# Altium integrated library Linear Technology Power Management Switching Regulator LTC1174-LTC3901.IntLib: 2647 symbols (part 40 of 364)
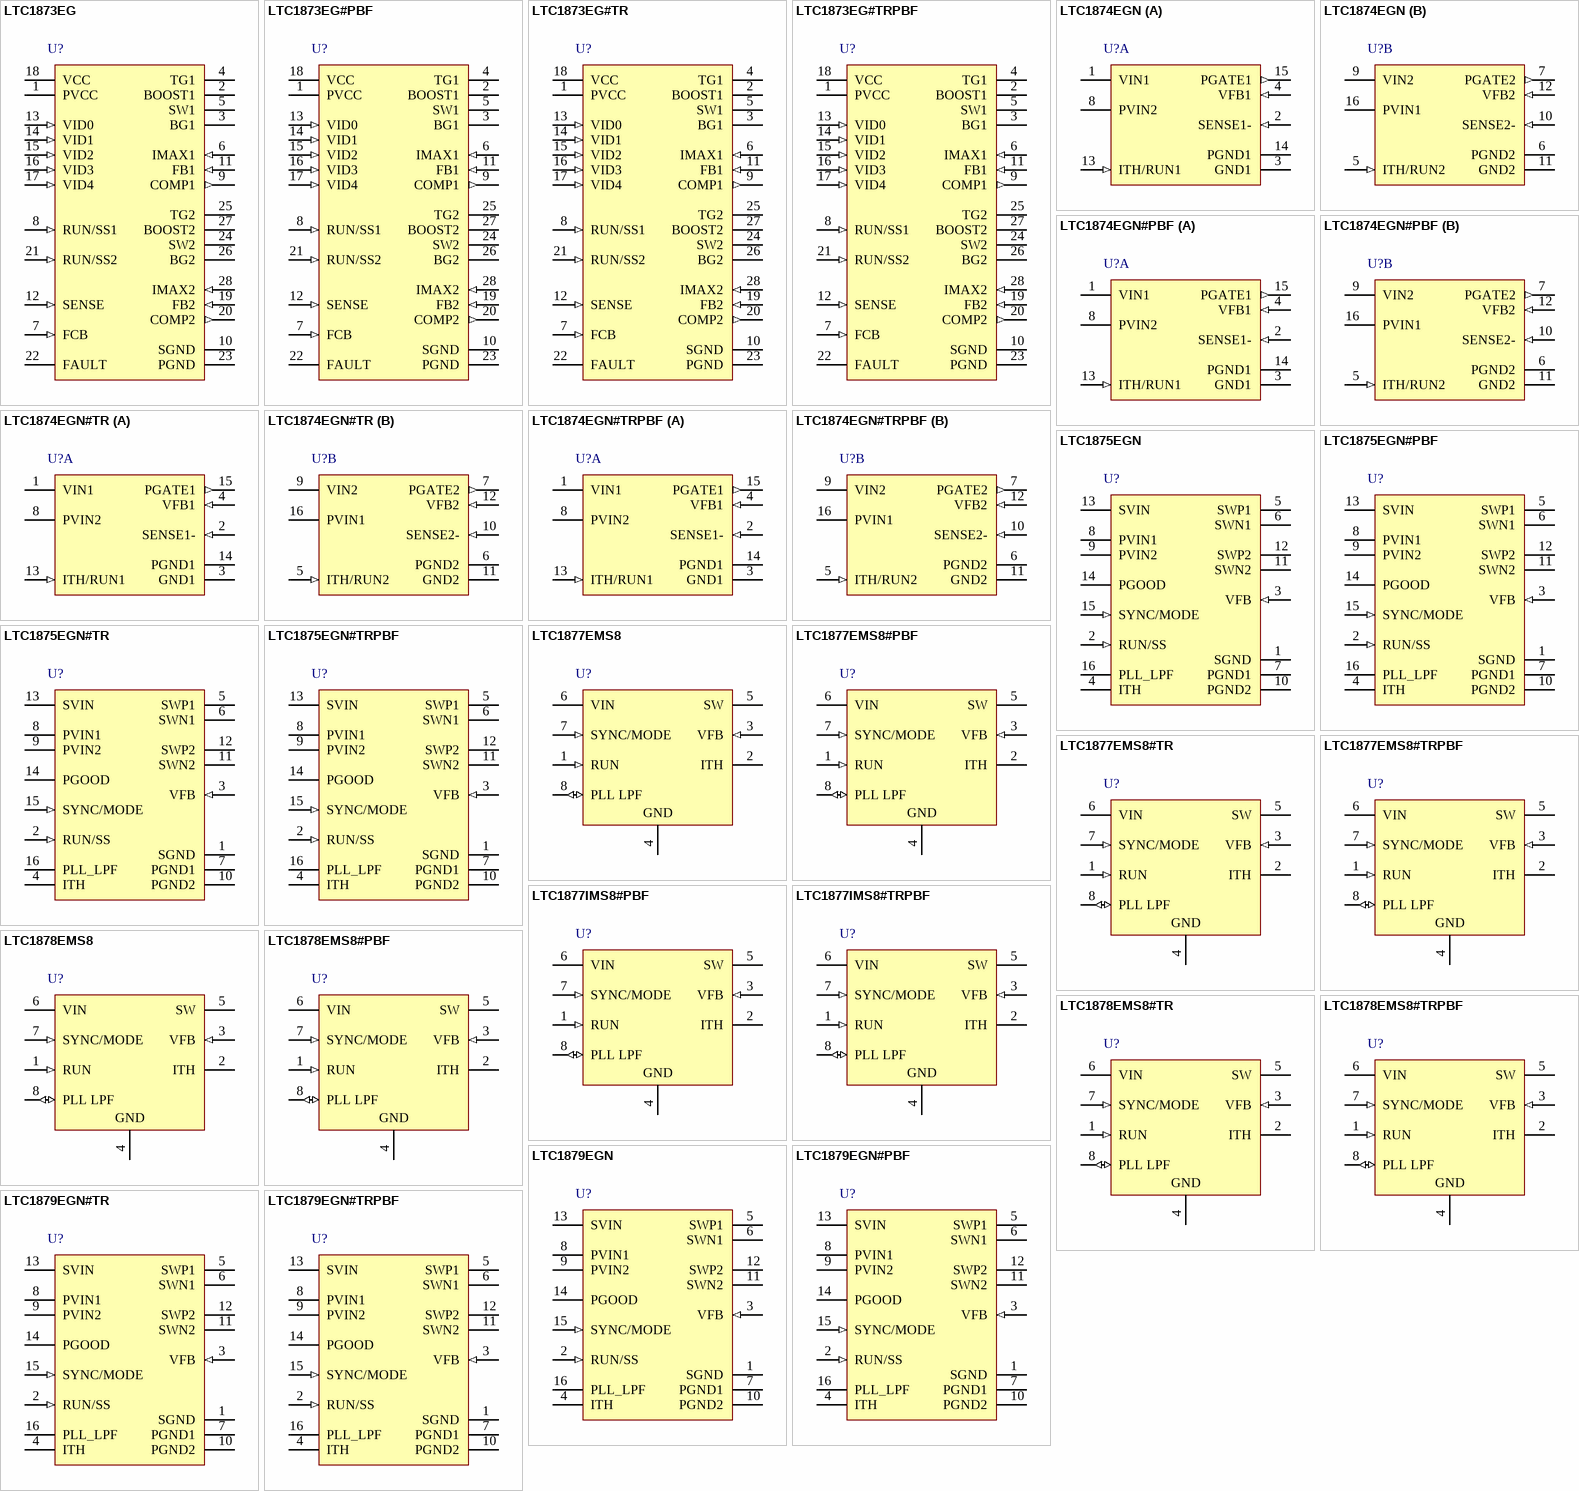
[diagram p136: symbols LTC1873EG to LTC1879EGN#TRPBF]

## LTC1873EG#PBF
designator U?
Dual 550 kHz Synchronous 2-Phase Switching Regulator Controller with 5-Bit VID, 28-pin SOP (G-28), -40 to 85 degC, Pb-Free; Manufacturer: Linear Technology; PartNumber: LTC1873EG#PBF; Number of Outputs: 2; PackageVersion: Jun-10; PackageReference: G-28; PackageDescription: 28-Pin Plastic SSOP, Body 10.2 x 5.3 mm, Pitch 0.65 mm; Supplier 1: Digi-Key; Supplier Part Number 1: LTC1873EG#PBF-ND; Supplier 2: Newark; Supplier Part Number 2: 56M4280; RoHS: TRUE; Mounting Technology: Surface Mount; ComponentLink1Description: Manufacturer URL; ComponentLink1URL: http://www.linear.com/; ComponentLink2Description: Datasheet; ComponentLink2URL: http://cds.linear.com/docs/en/datasheet/1873f.pdf; ComponentLink3Description: Package Specification; ComponentLink3URL: http://cds.linear.com/docs/en/packaging/SSOP_28_05-08-1640.pdf
footprint LT-G-28_N (SOP, 28-Leads, Body 10.2x5.3mm, Pitch 0.65mm, IPC Medium Density)
footprint LT-G-28_L (SOP, 28-Leads, Body 10.2x5.3mm, Pitch 0.65mm, IPC High Density)
footprint LT-G-28_M (SOP, 28-Leads, Body 10.2x5.3mm, Pitch 0.65mm, IPC Low Density)
pins: 1 PVCC (power) "Driver Power Supply Input. PVCC provides power to the two BGn output drivers. PVCC must be connected to a voltage high enough to fully turn on the external MOSFETs QB1 and QB2. PVCC should generally be connected directly to (See Datasheet)", 2 BOOST1 "Controller 1 Top Gate Driver Supply. The BOOST1 pin supplies power to the floating TG1 driver. BOOST1 should be bypassed to SW1 with a 1uF capacitor. An additional Schottky diode from VIN to BOOST1 pin will create a complete (See Datasheet)", 3 BG1 (hiz) "Controller 1 Bottom Gate Drive. The BG1 pin drives the gate of the bottom N-channel synchronous switch MOSFET, QB1. BG1 is designed to drive up to 10,000pF of gate capacitance directly. If RUN/SS1 goes low, BG1 will go low, (See Datasheet)", 4 TG1 (hiz) "Controller 1 Top Gate Drive. The TG1 pin drives the gate of the top N-channel MOSFET, QT1. The TG1 driver draws power from the BOOST1 pin and returns to the SW1 pin, providing true floating drive to QT1. TG1 is designed to (See Datasheet)", 5 SW1 "Controller 1 Switching Node. SW1 should be connected to the switching node of converter 1. The TG1 driver ground returns to SW1, providing floating gate drive to the top N-channel MOSFET switch, QT1. The voltage at SW1 is (See Datasheet)", 6 IMAX1 (in) "Controller 1 Current Limit Set. The IMAX1 pin sets the current limit comparator threshold for controller 1. If the voltage drop across the bottom MOSFET, QB1, exceeds the magnitude of the voltage at IMAX1, controller 1 will (See Datasheet)", 7 FCB (in) "Force Continuous Bar. The FCB pin forces both converters to maintain continuous synchronous operation regardless of load when the voltage at FCB drops below 0.8V. FCB is normally tied to VCC. To force continuous operation, (See Datasheet)", 8 RUN/SS1 (in) "Controller 1 Run/Soft-Start. Pulling RUN/SS1 to SGND will disable controller 1 and turn off both of its external MOSFET switches. Pulling both RUN/SS pins down will shut down the entire LTC1873, dropping the quiescent supply (See Datasheet)", 9 COMP1 (out) "Controller 1 Loop Compensation. The COMP1 pin is connected directly to the output of the first controller’s error amplifier and the input to the PWM comparator. An RC network is used at the COMP1 pin to compensate th(See Datasheet)", 10 SGND (power) "Signal Ground. All internal low power circuitry returns to the SGND pin. Connect to a low impedance ground, separated from the PGND node. All feedback, compensation and soft-start connections should return to SGND. SGND and (See Datasheet)", 11 FB1 (in) "Controller 1 Feedback Input. The loop compensation network for controller 1 should be connected to FB1. FB1 is connected internally to the VID resistor network to set the output voltage at side 1.", 12 SENSE (in) "Output Sense. Connect to VOUT1.", 13 VID0 (in) "VID Programming Inputs. These are logic inputs that set the output voltage at side 1 to a preprogrammed value (see Table 1). VID4 is the MSB, VID0 is the LSB. The codes selected by the VIDn inputs correspond to the Intel (See Datasheet)", 14 VID1 (in) "VID Programming Inputs. These are logic inputs that set the output voltage at side 1 to a preprogrammed value (see Table 1). VID4 is the MSB, VID0 is the LSB. The codes selected by the VIDn inputs correspond to the Intel (See Datasheet)", 15 VID2 (in) "VID Programming Inputs. These are logic inputs that set the output voltage at side 1 to a preprogrammed value (see Table 1). VID4 is the MSB, VID0 is the LSB. The codes selected by the VIDn inputs correspond to the Intel (See Datasheet)", 16 VID3 (in) "VID Programming Inputs. These are logic inputs that set the output voltage at side 1 to a preprogrammed value (see Table 1). VID4 is the MSB, VID0 is the LSB. The codes selected by the VIDn inputs correspond to the Intel (See Datasheet)", 17 VID4 (in) "VID Programming Inputs. These are logic inputs that set the output voltage at side 1 to a preprogrammed value (see Table 1). VID4 is the MSB, VID0 is the LSB. The codes selected by the VIDn inputs correspond to the Intel (See Datasheet)", 18 VCC (power) "Power Supply Input. All internal circuits except the output drivers are powered from this pin. VCC should be connected to a low noise power supply voltage between 3V and 7V and should be bypassed to SGND with at least a 1uF (See Datasheet)", 19 FB2 (in) "Controller 2 Feedback Input. FB2 should be connected through a resistor divider network to VOUT2 to set the ouput voltage. The loop compensation network for controller 2 also connects to FB2.", 20 COMP2 (out) "Controller 2 Loop Compensation. See COMP1.", 21 RUN/SS2 (in) "Controller 2 Run/Soft-Start. See RUN/ SS1.", 22 FAULT (oc) "Output Overvoltage Fault (Latched). The FAULT pin is an open-drain output with an internal 10uA pull-up. If either regulated output voltage rises more than 15% above its programmed value for more than 25us, the FAULT output (See Datasheet)", 23 PGND (power) "Power Ground. The BGn drivers return to this pin. Connect PGND to a high current ground node in close proximity to the sources of external MOSFETs, QB1 and QB2, and the VIN and VOUT bypass capacitors.", 24 SW2 "Controller 2 Switching Node. See SW1.", 25 TG2 (hiz) "Controller 2 Top Gate Drive. See TG1.", 26 BG2 (hiz) "Controller 2 Bottom Gate Drive. See BG1.", 27 BOOST2 "Controller 2 Top Gate Driver Supply. See BOOST1.", 28 IMAX2 (in) "Controller 2 Current Limit Set. See IMAX1."

## LTC1873EG#TR
designator U?
Dual 550 kHz Synchronous 2-Phase Switching Regulator Controller with 5-Bit VID, 28-pin SOP (G-28), -40 to 85 degC, Tape and Reel; Manufacturer: Linear Technology; PartNumber: LTC1873EG#TR; Number of Outputs: 2; PackageVersion: Jun-10; PackageReference: G-28; PackageDescription: 28-Pin Plastic SSOP, Body 10.2 x 5.3 mm, Pitch 0.65 mm; Supplier 1: Digi-Key; Supplier Part Number 1: LTC1873EG#TR-ND; Packing: Tape and Reel; RoHS: FALSE; Mounting Technology: Surface Mount; ComponentLink1Description: Manufacturer URL; ComponentLink1URL: http://www.linear.com/; ComponentLink2Description: Datasheet; ComponentLink2URL: http://cds.linear.com/docs/en/datasheet/1873f.pdf; ComponentLink3Description: Package Specification; ComponentLink3URL: http://cds.linear.com/docs/en/packaging/SSOP_28_05-08-1640.pdf
footprint LT-G-28_N (SOP, 28-Leads, Body 10.2x5.3mm, Pitch 0.65mm, IPC Medium Density)
footprint LT-G-28_L (SOP, 28-Leads, Body 10.2x5.3mm, Pitch 0.65mm, IPC High Density)
footprint LT-G-28_M (SOP, 28-Leads, Body 10.2x5.3mm, Pitch 0.65mm, IPC Low Density)
pins: 1 PVCC (power) "Driver Power Supply Input. PVCC provides power to the two BGn output drivers. PVCC must be connected to a voltage high enough to fully turn on the external MOSFETs QB1 and QB2. PVCC should generally be connected directly to (See Datasheet)", 2 BOOST1 "Controller 1 Top Gate Driver Supply. The BOOST1 pin supplies power to the floating TG1 driver. BOOST1 should be bypassed to SW1 with a 1uF capacitor. An additional Schottky diode from VIN to BOOST1 pin will create a complete (See Datasheet)", 3 BG1 (hiz) "Controller 1 Bottom Gate Drive. The BG1 pin drives the gate of the bottom N-channel synchronous switch MOSFET, QB1. BG1 is designed to drive up to 10,000pF of gate capacitance directly. If RUN/SS1 goes low, BG1 will go low, (See Datasheet)", 4 TG1 (hiz) "Controller 1 Top Gate Drive. The TG1 pin drives the gate of the top N-channel MOSFET, QT1. The TG1 driver draws power from the BOOST1 pin and returns to the SW1 pin, providing true floating drive to QT1. TG1 is designed to (See Datasheet)", 5 SW1 "Controller 1 Switching Node. SW1 should be connected to the switching node of converter 1. The TG1 driver ground returns to SW1, providing floating gate drive to the top N-channel MOSFET switch, QT1. The voltage at SW1 is (See Datasheet)", 6 IMAX1 (in) "Controller 1 Current Limit Set. The IMAX1 pin sets the current limit comparator threshold for controller 1. If the voltage drop across the bottom MOSFET, QB1, exceeds the magnitude of the voltage at IMAX1, controller 1 will (See Datasheet)", 7 FCB (in) "Force Continuous Bar. The FCB pin forces both converters to maintain continuous synchronous operation regardless of load when the voltage at FCB drops below 0.8V. FCB is normally tied to VCC. To force continuous operation, (See Datasheet)", 8 RUN/SS1 (in) "Controller 1 Run/Soft-Start. Pulling RUN/SS1 to SGND will disable controller 1 and turn off both of its external MOSFET switches. Pulling both RUN/SS pins down will shut down the entire LTC1873, dropping the quiescent supply (See Datasheet)", 9 COMP1 (out) "Controller 1 Loop Compensation. The COMP1 pin is connected directly to the output of the first controller’s error amplifier and the input to the PWM comparator. An RC network is used at the COMP1 pin to compensate th(See Datasheet)", 10 SGND (power) "Signal Ground. All internal low power circuitry returns to the SGND pin. Connect to a low impedance ground, separated from the PGND node. All feedback, compensation and soft-start connections should return to SGND. SGND and (See Datasheet)", 11 FB1 (in) "Controller 1 Feedback Input. The loop compensation network for controller 1 should be connected to FB1. FB1 is connected internally to the VID resistor network to set the output voltage at side 1.", 12 SENSE (in) "Output Sense. Connect to VOUT1.", 13 VID0 (in) "VID Programming Inputs. These are logic inputs that set the output voltage at side 1 to a preprogrammed value (see Table 1). VID4 is the MSB, VID0 is the LSB. The codes selected by the VIDn inputs correspond to the Intel (See Datasheet)", 14 VID1 (in) "VID Programming Inputs. These are logic inputs that set the output voltage at side 1 to a preprogrammed value (see Table 1). VID4 is the MSB, VID0 is the LSB. The codes selected by the VIDn inputs correspond to the Intel (See Datasheet)", 15 VID2 (in) "VID Programming Inputs. These are logic inputs that set the output voltage at side 1 to a preprogrammed value (see Table 1). VID4 is the MSB, VID0 is the LSB. The codes selected by the VIDn inputs correspond to the Intel (See Datasheet)", 16 VID3 (in) "VID Programming Inputs. These are logic inputs that set the output voltage at side 1 to a preprogrammed value (see Table 1). VID4 is the MSB, VID0 is the LSB. The codes selected by the VIDn inputs correspond to the Intel (See Datasheet)", 17 VID4 (in) "VID Programming Inputs. These are logic inputs that set the output voltage at side 1 to a preprogrammed value (see Table 1). VID4 is the MSB, VID0 is the LSB. The codes selected by the VIDn inputs correspond to the Intel (See Datasheet)", 18 VCC (power) "Power Supply Input. All internal circuits except the output drivers are powered from this pin. VCC should be connected to a low noise power supply voltage between 3V and 7V and should be bypassed to SGND with at least a 1uF (See Datasheet)", 19 FB2 (in) "Controller 2 Feedback Input. FB2 should be connected through a resistor divider network to VOUT2 to set the ouput voltage. The loop compensation network for controller 2 also connects to FB2.", 20 COMP2 (out) "Controller 2 Loop Compensation. See COMP1.", 21 RUN/SS2 (in) "Controller 2 Run/Soft-Start. See RUN/ SS1.", 22 FAULT (oc) "Output Overvoltage Fault (Latched). The FAULT pin is an open-drain output with an internal 10uA pull-up. If either regulated output voltage rises more than 15% above its programmed value for more than 25us, the FAULT output (See Datasheet)", 23 PGND (power) "Power Ground. The BGn drivers return to this pin. Connect PGND to a high current ground node in close proximity to the sources of external MOSFETs, QB1 and QB2, and the VIN and VOUT bypass capacitors.", 24 SW2 "Controller 2 Switching Node. See SW1.", 25 TG2 (hiz) "Controller 2 Top Gate Drive. See TG1.", 26 BG2 (hiz) "Controller 2 Bottom Gate Drive. See BG1.", 27 BOOST2 "Controller 2 Top Gate Driver Supply. See BOOST1.", 28 IMAX2 (in) "Controller 2 Current Limit Set. See IMAX1."

## LTC1873EG#TRPBF
designator U?
Dual 550 kHz Synchronous 2-Phase Switching Regulator Controller with 5-Bit VID, 28-pin SOP (G-28), -40 to 85 degC, Pb-Free, Tape and Reel; Manufacturer: Linear Technology; PartNumber: LTC1873EG#TRPBF; Number of Outputs: 2; PackageVersion: Jun-10; PackageReference: G-28; PackageDescription: 28-Pin Plastic SSOP, Body 10.2 x 5.3 mm, Pitch 0.65 mm; Supplier 1: Digi-Key; Supplier Part Number 1: LTC1873EG#TRPBF-ND; Packing: Tape and Reel; RoHS: TRUE; Mounting Technology: Surface Mount; ComponentLink1Description: Manufacturer URL; ComponentLink1URL: http://www.linear.com/; ComponentLink2Description: Datasheet; ComponentLink2URL: http://cds.linear.com/docs/en/datasheet/1873f.pdf; ComponentLink3Description: Package Specification; ComponentLink3URL: http://cds.linear.com/docs/en/packaging/SSOP_28_05-08-1640.pdf
footprint LT-G-28_N (SOP, 28-Leads, Body 10.2x5.3mm, Pitch 0.65mm, IPC Medium Density)
footprint LT-G-28_L (SOP, 28-Leads, Body 10.2x5.3mm, Pitch 0.65mm, IPC High Density)
footprint LT-G-28_M (SOP, 28-Leads, Body 10.2x5.3mm, Pitch 0.65mm, IPC Low Density)
pins: 1 PVCC (power) "Driver Power Supply Input. PVCC provides power to the two BGn output drivers. PVCC must be connected to a voltage high enough to fully turn on the external MOSFETs QB1 and QB2. PVCC should generally be connected directly to (See Datasheet)", 2 BOOST1 "Controller 1 Top Gate Driver Supply. The BOOST1 pin supplies power to the floating TG1 driver. BOOST1 should be bypassed to SW1 with a 1uF capacitor. An additional Schottky diode from VIN to BOOST1 pin will create a complete (See Datasheet)", 3 BG1 (hiz) "Controller 1 Bottom Gate Drive. The BG1 pin drives the gate of the bottom N-channel synchronous switch MOSFET, QB1. BG1 is designed to drive up to 10,000pF of gate capacitance directly. If RUN/SS1 goes low, BG1 will go low, (See Datasheet)", 4 TG1 (hiz) "Controller 1 Top Gate Drive. The TG1 pin drives the gate of the top N-channel MOSFET, QT1. The TG1 driver draws power from the BOOST1 pin and returns to the SW1 pin, providing true floating drive to QT1. TG1 is designed to (See Datasheet)", 5 SW1 "Controller 1 Switching Node. SW1 should be connected to the switching node of converter 1. The TG1 driver ground returns to SW1, providing floating gate drive to the top N-channel MOSFET switch, QT1. The voltage at SW1 is (See Datasheet)", 6 IMAX1 (in) "Controller 1 Current Limit Set. The IMAX1 pin sets the current limit comparator threshold for controller 1. If the voltage drop across the bottom MOSFET, QB1, exceeds the magnitude of the voltage at IMAX1, controller 1 will (See Datasheet)", 7 FCB (in) "Force Continuous Bar. The FCB pin forces both converters to maintain continuous synchronous operation regardless of load when the voltage at FCB drops below 0.8V. FCB is normally tied to VCC. To force continuous operation, (See Datasheet)", 8 RUN/SS1 (in) "Controller 1 Run/Soft-Start. Pulling RUN/SS1 to SGND will disable controller 1 and turn off both of its external MOSFET switches. Pulling both RUN/SS pins down will shut down the entire LTC1873, dropping the quiescent supply (See Datasheet)", 9 COMP1 (out) "Controller 1 Loop Compensation. The COMP1 pin is connected directly to the output of the first controller’s error amplifier and the input to the PWM comparator. An RC network is used at the COMP1 pin to compensate th(See Datasheet)", 10 SGND (power) "Signal Ground. All internal low power circuitry returns to the SGND pin. Connect to a low impedance ground, separated from the PGND node. All feedback, compensation and soft-start connections should return to SGND. SGND and (See Datasheet)", 11 FB1 (in) "Controller 1 Feedback Input. The loop compensation network for controller 1 should be connected to FB1. FB1 is connected internally to the VID resistor network to set the output voltage at side 1.", 12 SENSE (in) "Output Sense. Connect to VOUT1.", 13 VID0 (in) "VID Programming Inputs. These are logic inputs that set the output voltage at side 1 to a preprogrammed value (see Table 1). VID4 is the MSB, VID0 is the LSB. The codes selected by the VIDn inputs correspond to the Intel (See Datasheet)", 14 VID1 (in) "VID Programming Inputs. These are logic inputs that set the output voltage at side 1 to a preprogrammed value (see Table 1). VID4 is the MSB, VID0 is the LSB. The codes selected by the VIDn inputs correspond to the Intel (See Datasheet)", 15 VID2 (in) "VID Programming Inputs. These are logic inputs that set the output voltage at side 1 to a preprogrammed value (see Table 1). VID4 is the MSB, VID0 is the LSB. The codes selected by the VIDn inputs correspond to the Intel (See Datasheet)", 16 VID3 (in) "VID Programming Inputs. These are logic inputs that set the output voltage at side 1 to a preprogrammed value (see Table 1). VID4 is the MSB, VID0 is the LSB. The codes selected by the VIDn inputs correspond to the Intel (See Datasheet)", 17 VID4 (in) "VID Programming Inputs. These are logic inputs that set the output voltage at side 1 to a preprogrammed value (see Table 1). VID4 is the MSB, VID0 is the LSB. The codes selected by the VIDn inputs correspond to the Intel (See Datasheet)", 18 VCC (power) "Power Supply Input. All internal circuits except the output drivers are powered from this pin. VCC should be connected to a low noise power supply voltage between 3V and 7V and should be bypassed to SGND with at least a 1uF (See Datasheet)", 19 FB2 (in) "Controller 2 Feedback Input. FB2 should be connected through a resistor divider network to VOUT2 to set the ouput voltage. The loop compensation network for controller 2 also connects to FB2.", 20 COMP2 (out) "Controller 2 Loop Compensation. See COMP1.", 21 RUN/SS2 (in) "Controller 2 Run/Soft-Start. See RUN/ SS1.", 22 FAULT (oc) "Output Overvoltage Fault (Latched). The FAULT pin is an open-drain output with an internal 10uA pull-up. If either regulated output voltage rises more than 15% above its programmed value for more than 25us, the FAULT output (See Datasheet)", 23 PGND (power) "Power Ground. The BGn drivers return to this pin. Connect PGND to a high current ground node in close proximity to the sources of external MOSFETs, QB1 and QB2, and the VIN and VOUT bypass capacitors.", 24 SW2 "Controller 2 Switching Node. See SW1.", 25 TG2 (hiz) "Controller 2 Top Gate Drive. See TG1.", 26 BG2 (hiz) "Controller 2 Bottom Gate Drive. See BG1.", 27 BOOST2 "Controller 2 Top Gate Driver Supply. See BOOST1.", 28 IMAX2 (in) "Controller 2 Current Limit Set. See IMAX1."

## LTC1874EGN
designator U?
Dual Constant Frequency Current Mode Step-Down DC/DC Controller, 16-pin SOP (GN-16), -40 to 85 degC; Manufacturer: Linear Technology; PartNumber: LTC1874EGN; Number of Outputs: 2; PackageVersion: Rev. B, 03/2012; PackageReference: GN-16; PackageDescription: 16-Pin Plastic SSOP, Body 4.9 x 3.9 mm, Pitch 0.635 mm; Supplier 1: Digi-Key; Supplier Part Number 1: LTC1874EGN-ND; RoHS: FALSE; Mounting Technology: Surface Mount; ComponentLink1Description: Manufacturer URL; ComponentLink1URL: http://www.linear.com/; ComponentLink2Description: Datasheet; ComponentLink2URL: http://cds.linear.com/docs/en/datasheet/1874f.pdf; ComponentLink3Description: Package Specification; ComponentLink3URL: http://cds.linear.com/docs/en/packaging/05081641_B_GN16.pdf
footprint LT-GN-16_N (SOP, 16-Leads, Body 5x4mm, Pitch 0.635mm, IPC Medium Density)
footprint LT-GN-16_L (SOP, 16-Leads, Body 5x4mm, Pitch 0.635mm, IPC High Density)
footprint LT-GN-16_M (SOP, 16-Leads, Body 5x4mm, Pitch 0.635mm, IPC Low Density)
part A pins: 1 VIN1 (power) "Main Supply Pin for Controller #1. This pin delivers the Input DC Supply Current (listed in the Electrical Characteristics table) plus a small amount of logic switching current. Must be connected to PVIN1 (Pin 16) and (See Datasheet)", 2 SENSE1- (in) "The Negative Input to the Current Comparator of Controller #1.", 3 GND1 (power) "Signal Ground for Controller #1. Must be connected to PGND1 (Pin 14).", 4 VFB1 (in) "Receives the feedback voltage from an external resistive divider across the output of Controller #1.", 8 PVIN2 (power) "Power Supply Pin for Controller #2. This pin delivers the dynamic switching current that drives the gate of the external P-channel MOSFET of Controller #2. Must be connected to VIN2 (Pin 9) and closely decoupled to PGND2 (See Datasheet)", 13 ITH/RUN1 (in) "This pin performs two functions. It serves as the error amplifier compensation point as well as the run control input of Controller #1. The current comparator threshold increases with this control voltage. Nominal voltage (See Datasheet)", 14 PGND1 (power) "Power Ground for Controller #1. Must be connected to GND1 (Pin 3).", 15 PGATE1 (out) "Gate Drive for the External P-Channel MOSFET of Controller #1. This pin swings from 0V to the voltage of PVIN1."
part B pins: 5 ITH/RUN2 (in) "This pin performs two functions. It serves as the error amplifier compensation point as well as the run control input of Controller #2. The current comparator threshold increases with this control voltage. Nominal voltage (See Datasheet)", 6 PGND2 (power) "Power Ground for Controller #2. Must be connected to GND2 (Pin 11).", 7 PGATE2 (out) "Gate Drive for the External P-Channel MOSFET of Controller #2. This pin swings from 0V to the voltage of PVIN2", 9 VIN2 (power) "Main Supply Pin for Controller #2. This pin delivers the Input DC Supply Current (listed in the Electrical Characteristics table) plus a small amount of logic switching current. Must be connected to PVIN2 (Pin 8) and closely (See Datasheet)", 10 SENSE2- (in) "The Negative Input to the Current Comparator of Controller #2.", 11 GND2 (power) "Signal Ground for Controller #2. Must be connected to PGND2 (Pin 6).", 12 VFB2 (in) "Receives the feedback voltage from an external resistive divider across the output of Controller #2.", 16 PVIN1 (power) "Power Supply Pin for Controller #1. This pin delivers the dynamic switching current that drives the gate of the external P-channel MOSFET of Controller #1. Must be connected to VIN1 (Pin 1) and closely decoupled to PGND1 (See Datasheet)"

## LTC1874EGN#PBF
designator U?
Dual Constant Frequency Current Mode Step-Down DC/DC Controller, 16-pin SOP (GN-16), -40 to 85 degC, Pb-Free; Manufacturer: Linear Technology; PartNumber: LTC1874EGN#PBF; Number of Outputs: 2; PackageVersion: Rev. B, 03/2012; PackageReference: GN-16; PackageDescription: 16-Pin Plastic SSOP, Body 4.9 x 3.9 mm, Pitch 0.635 mm; Supplier 1: Digi-Key; Supplier Part Number 1: LTC1874EGN#PBF-ND; Supplier 2: Newark; Supplier Part Number 2: 56M4284; RoHS: TRUE; Mounting Technology: Surface Mount; ComponentLink1Description: Manufacturer URL; ComponentLink1URL: http://www.linear.com/; ComponentLink2Description: Datasheet; ComponentLink2URL: http://cds.linear.com/docs/en/datasheet/1874f.pdf; ComponentLink3Description: Package Specification; ComponentLink3URL: http://cds.linear.com/docs/en/packaging/05081641_B_GN16.pdf
footprint LT-GN-16_N (SOP, 16-Leads, Body 5x4mm, Pitch 0.635mm, IPC Medium Density)
footprint LT-GN-16_L (SOP, 16-Leads, Body 5x4mm, Pitch 0.635mm, IPC High Density)
footprint LT-GN-16_M (SOP, 16-Leads, Body 5x4mm, Pitch 0.635mm, IPC Low Density)
part A pins: 1 VIN1 (power) "Main Supply Pin for Controller #1. This pin delivers the Input DC Supply Current (listed in the Electrical Characteristics table) plus a small amount of logic switching current. Must be connected to PVIN1 (Pin 16) and (See Datasheet)", 2 SENSE1- (in) "The Negative Input to the Current Comparator of Controller #1.", 3 GND1 (power) "Signal Ground for Controller #1. Must be connected to PGND1 (Pin 14).", 4 VFB1 (in) "Receives the feedback voltage from an external resistive divider across the output of Controller #1.", 8 PVIN2 (power) "Power Supply Pin for Controller #2. This pin delivers the dynamic switching current that drives the gate of the external P-channel MOSFET of Controller #2. Must be connected to VIN2 (Pin 9) and closely decoupled to PGND2 (See Datasheet)", 13 ITH/RUN1 (in) "This pin performs two functions. It serves as the error amplifier compensation point as well as the run control input of Controller #1. The current comparator threshold increases with this control voltage. Nominal voltage (See Datasheet)", 14 PGND1 (power) "Power Ground for Controller #1. Must be connected to GND1 (Pin 3).", 15 PGATE1 (out) "Gate Drive for the External P-Channel MOSFET of Controller #1. This pin swings from 0V to the voltage of PVIN1."
part B pins: 5 ITH/RUN2 (in) "This pin performs two functions. It serves as the error amplifier compensation point as well as the run control input of Controller #2. The current comparator threshold increases with this control voltage. Nominal voltage (See Datasheet)", 6 PGND2 (power) "Power Ground for Controller #2. Must be connected to GND2 (Pin 11).", 7 PGATE2 (out) "Gate Drive for the External P-Channel MOSFET of Controller #2. This pin swings from 0V to the voltage of PVIN2", 9 VIN2 (power) "Main Supply Pin for Controller #2. This pin delivers the Input DC Supply Current (listed in the Electrical Characteristics table) plus a small amount of logic switching current. Must be connected to PVIN2 (Pin 8) and closely (See Datasheet)", 10 SENSE2- (in) "The Negative Input to the Current Comparator of Controller #2.", 11 GND2 (power) "Signal Ground for Controller #2. Must be connected to PGND2 (Pin 6).", 12 VFB2 (in) "Receives the feedback voltage from an external resistive divider across the output of Controller #2.", 16 PVIN1 (power) "Power Supply Pin for Controller #1. This pin delivers the dynamic switching current that drives the gate of the external P-channel MOSFET of Controller #1. Must be connected to VIN1 (Pin 1) and closely decoupled to PGND1 (See Datasheet)"

## LTC1874EGN#TR
designator U?
Dual Constant Frequency Current Mode Step-Down DC/DC Controller, 16-pin SOP (GN-16), -40 to 85 degC, Tape and Reel; Manufacturer: Linear Technology; PartNumber: LTC1874EGN#TR; Number of Outputs: 2; PackageVersion: Rev. B, 03/2012; PackageReference: GN-16; PackageDescription: 16-Pin Plastic SSOP, Body 4.9 x 3.9 mm, Pitch 0.635 mm; Supplier 1: Digi-Key; Supplier Part Number 1: LTC1874EGN#TR-ND; Packing: Tape and Reel; RoHS: FALSE; Mounting Technology: Surface Mount; ComponentLink1Description: Manufacturer URL; ComponentLink1URL: http://www.linear.com/; ComponentLink2Description: Datasheet; ComponentLink2URL: http://cds.linear.com/docs/en/datasheet/1874f.pdf; ComponentLink3Description: Package Specification; ComponentLink3URL: http://cds.linear.com/docs/en/packaging/05081641_B_GN16.pdf
footprint LT-GN-16_N (SOP, 16-Leads, Body 5x4mm, Pitch 0.635mm, IPC Medium Density)
footprint LT-GN-16_L (SOP, 16-Leads, Body 5x4mm, Pitch 0.635mm, IPC High Density)
footprint LT-GN-16_M (SOP, 16-Leads, Body 5x4mm, Pitch 0.635mm, IPC Low Density)
part A pins: 1 VIN1 (power) "Main Supply Pin for Controller #1. This pin delivers the Input DC Supply Current (listed in the Electrical Characteristics table) plus a small amount of logic switching current. Must be connected to PVIN1 (Pin 16) and (See Datasheet)", 2 SENSE1- (in) "The Negative Input to the Current Comparator of Controller #1.", 3 GND1 (power) "Signal Ground for Controller #1. Must be connected to PGND1 (Pin 14).", 4 VFB1 (in) "Receives the feedback voltage from an external resistive divider across the output of Controller #1.", 8 PVIN2 (power) "Power Supply Pin for Controller #2. This pin delivers the dynamic switching current that drives the gate of the external P-channel MOSFET of Controller #2. Must be connected to VIN2 (Pin 9) and closely decoupled to PGND2 (See Datasheet)", 13 ITH/RUN1 (in) "This pin performs two functions. It serves as the error amplifier compensation point as well as the run control input of Controller #1. The current comparator threshold increases with this control voltage. Nominal voltage (See Datasheet)", 14 PGND1 (power) "Power Ground for Controller #1. Must be connected to GND1 (Pin 3).", 15 PGATE1 (out) "Gate Drive for the External P-Channel MOSFET of Controller #1. This pin swings from 0V to the voltage of PVIN1."
part B pins: 5 ITH/RUN2 (in) "This pin performs two functions. It serves as the error amplifier compensation point as well as the run control input of Controller #2. The current comparator threshold increases with this control voltage. Nominal voltage (See Datasheet)", 6 PGND2 (power) "Power Ground for Controller #2. Must be connected to GND2 (Pin 11).", 7 PGATE2 (out) "Gate Drive for the External P-Channel MOSFET of Controller #2. This pin swings from 0V to the voltage of PVIN2", 9 VIN2 (power) "Main Supply Pin for Controller #2. This pin delivers the Input DC Supply Current (listed in the Electrical Characteristics table) plus a small amount of logic switching current. Must be connected to PVIN2 (Pin 8) and closely (See Datasheet)", 10 SENSE2- (in) "The Negative Input to the Current Comparator of Controller #2.", 11 GND2 (power) "Signal Ground for Controller #2. Must be connected to PGND2 (Pin 6).", 12 VFB2 (in) "Receives the feedback voltage from an external resistive divider across the output of Controller #2.", 16 PVIN1 (power) "Power Supply Pin for Controller #1. This pin delivers the dynamic switching current that drives the gate of the external P-channel MOSFET of Controller #1. Must be connected to VIN1 (Pin 1) and closely decoupled to PGND1 (See Datasheet)"

## LTC1874EGN#TRPBF
designator U?
Dual Constant Frequency Current Mode Step-Down DC/DC Controller, 16-pin SOP (GN-16), -40 to 85 degC, Pb-Free, Tape and Reel; Manufacturer: Linear Technology; PartNumber: LTC1874EGN#TRPBF; Number of Outputs: 2; PackageVersion: Rev. B, 03/2012; PackageReference: GN-16; PackageDescription: 16-Pin Plastic SSOP, Body 4.9 x 3.9 mm, Pitch 0.635 mm; Supplier 1: Digi-Key; Supplier Part Number 1: LTC1874EGN#TRPBF-ND; Packing: Tape and Reel; RoHS: TRUE; Mounting Technology: Surface Mount; ComponentLink1Description: Manufacturer URL; ComponentLink1URL: http://www.linear.com/; ComponentLink2Description: Datasheet; ComponentLink2URL: http://cds.linear.com/docs/en/datasheet/1874f.pdf; ComponentLink3Description: Package Specification; ComponentLink3URL: http://cds.linear.com/docs/en/packaging/05081641_B_GN16.pdf
footprint LT-GN-16_N (SOP, 16-Leads, Body 5x4mm, Pitch 0.635mm, IPC Medium Density)
footprint LT-GN-16_L (SOP, 16-Leads, Body 5x4mm, Pitch 0.635mm, IPC High Density)
footprint LT-GN-16_M (SOP, 16-Leads, Body 5x4mm, Pitch 0.635mm, IPC Low Density)
part A pins: 1 VIN1 (power) "Main Supply Pin for Controller #1. This pin delivers the Input DC Supply Current (listed in the Electrical Characteristics table) plus a small amount of logic switching current. Must be connected to PVIN1 (Pin 16) and (See Datasheet)", 2 SENSE1- (in) "The Negative Input to the Current Comparator of Controller #1.", 3 GND1 (power) "Signal Ground for Controller #1. Must be connected to PGND1 (Pin 14).", 4 VFB1 (in) "Receives the feedback voltage from an external resistive divider across the output of Controller #1.", 8 PVIN2 (power) "Power Supply Pin for Controller #2. This pin delivers the dynamic switching current that drives the gate of the external P-channel MOSFET of Controller #2. Must be connected to VIN2 (Pin 9) and closely decoupled to PGND2 (See Datasheet)", 13 ITH/RUN1 (in) "This pin performs two functions. It serves as the error amplifier compensation point as well as the run control input of Controller #1. The current comparator threshold increases with this control voltage. Nominal voltage (See Datasheet)", 14 PGND1 (power) "Power Ground for Controller #1. Must be connected to GND1 (Pin 3).", 15 PGATE1 (out) "Gate Drive for the External P-Channel MOSFET of Controller #1. This pin swings from 0V to the voltage of PVIN1."
part B pins: 5 ITH/RUN2 (in) "This pin performs two functions. It serves as the error amplifier compensation point as well as the run control input of Controller #2. The current comparator threshold increases with this control voltage. Nominal voltage (See Datasheet)", 6 PGND2 (power) "Power Ground for Controller #2. Must be connected to GND2 (Pin 11).", 7 PGATE2 (out) "Gate Drive for the External P-Channel MOSFET of Controller #2. This pin swings from 0V to the voltage of PVIN2", 9 VIN2 (power) "Main Supply Pin for Controller #2. This pin delivers the Input DC Supply Current (listed in the Electrical Characteristics table) plus a small amount of logic switching current. Must be connected to PVIN2 (Pin 8) and closely (See Datasheet)", 10 SENSE2- (in) "The Negative Input to the Current Comparator of Controller #2.", 11 GND2 (power) "Signal Ground for Controller #2. Must be connected to PGND2 (Pin 6).", 12 VFB2 (in) "Receives the feedback voltage from an external resistive divider across the output of Controller #2.", 16 PVIN1 (power) "Power Supply Pin for Controller #1. This pin delivers the dynamic switching current that drives the gate of the external P-channel MOSFET of Controller #1. Must be connected to VIN1 (Pin 1) and closely decoupled to PGND1 (See Datasheet)"

## LTC1875EGN
designator U?
15 uA Quiescent Current 1.5 A Monolithic Synchronous Step-Down Regulator, 16-pin SOP (GN-16), -40 to 85 degC; Manufacturer: Linear Technology; PartNumber: LTC1875EGN; Frequency Sync Range: 350kHz - 750kHz; Number of Outputs: 1; PackageVersion: Rev. B, 03/2012; PackageReference: GN-16; PackageDescription: 16-Pin Plastic SSOP, Body 4.9 x 3.9 mm, Pitch 0.635 mm; Supplier 1: Digi-Key; Supplier Part Number 1: LTC1875EGN-ND; RoHS: FALSE; Mounting Technology: Surface Mount; ComponentLink1Description: Manufacturer URL; ComponentLink1URL: http://www.linear.com/; ComponentLink2Description: Datasheet; ComponentLink2URL: http://cds.linear.com/docs/en/datasheet/1875f.pdf; ComponentLink3Description: Package Specification; ComponentLink3URL: http://cds.linear.com/docs/en/packaging/05081641_B_GN16.pdf
footprint LT-GN-16_N (SOP, 16-Leads, Body 5x4mm, Pitch 0.635mm, IPC Medium Density)
footprint LT-GN-16_L (SOP, 16-Leads, Body 5x4mm, Pitch 0.635mm, IPC High Density)
footprint LT-GN-16_M (SOP, 16-Leads, Body 5x4mm, Pitch 0.635mm, IPC Low Density)
pins: 1 SGND (power) "Signal Ground Pin.", 2 RUN/SS (in) "Combination of Soft-Start and Run Control Inputs. Forcing this pin below 0.7V shuts down the device. In shutdown all functions are disabled and device draws zero supply current. For the proper operation of the part, force (See Datasheet)", 3 VFB (in) "Feedback Pin. Receives the feedback voltage from an external resistor divider across the output.", 4 ITH "Error Amplifier Compensation Point. The current output increases with this control voltage. Nominal voltage range for this pin is 0.5V to 1.8V.", 5 SWP1 (power) "Upper Switch Nodes. These pins connect to the drains of the internal main PMOS switches and should always be connected together externally.", 6 SWN1 (power) "Lower Switch Nodes. These pins connect to the drains of the internal synchronous NMOS switches and should always be connected together externally.", 7 PGND1 (power) "Power Ground Pins. Ground pins for the internal drivers and switches. These pins should always be tied together.", 8 PVIN1 (power) "Power Supply Pins for the Internal Drivers and Switches. These pins should always be tied together.", 9 PVIN2 (power) "Power Supply Pins for the Internal Drivers and Switches. These pins should always be tied together.", 10 PGND2 (power) "Power Ground Pins. Ground pins for the internal drivers and switches. These pins should always be tied together.", 11 SWN2 (power) "Lower Switch Nodes. These pins connect to the drains of the internal synchronous NMOS switches and should always be connected together externally.", 12 SWP2 (power) "Upper Switch Nodes. These pins connect to the drains of the internal main PMOS switches and should always be connected together externally.", 13 SVIN (power) "Signal Power Supply Pin.", 14 PGOOD (oc) "Power Good Indicator Pin. Power good is an open-drain logic output. The PGOOD pin is pulled to ground when the voltage on the VFB pin is not within +/-7.5% of its nominally regulated potential. This pin requires a pull-up (See Datasheet)", 15 SYNC/MODE (in) "External Clock Synchronization and Mode Select Input. To synchronize, apply an external clock with a frequency between 350kHz and 750kHz. To select Burst Mode operation, tie pin to SVIN. Grounding this pin selects pulse (See Datasheet)", 16 PLL_LPF "Output of the Phase Detector and Control Input of Oscillator. Connect a series RC lowpass network from this pin to ground if externally synchronized. If unused, this pin may be left open."

## LTC1875EGN#PBF
designator U?
15 uA Quiescent Current 1.5 A Monolithic Synchronous Step-Down Regulator, 16-pin SOP (GN-16), -40 to 85 degC, Pb-Free; Manufacturer: Linear Technology; PartNumber: LTC1875EGN#PBF; Frequency Sync Range: 350kHz - 750kHz; Number of Outputs: 1; PackageVersion: Rev. B, 03/2012; PackageReference: GN-16; PackageDescription: 16-Pin Plastic SSOP, Body 4.9 x 3.9 mm, Pitch 0.635 mm; Supplier 1: Digi-Key; Supplier Part Number 1: LTC1875EGN#PBF-ND; Supplier 2: Newark; Supplier Part Number 2: 56M4288; RoHS: TRUE; Mounting Technology: Surface Mount; ComponentLink1Description: Manufacturer URL; ComponentLink1URL: http://www.linear.com/; ComponentLink2Description: Datasheet; ComponentLink2URL: http://cds.linear.com/docs/en/datasheet/1875f.pdf; ComponentLink3Description: Package Specification; ComponentLink3URL: http://cds.linear.com/docs/en/packaging/05081641_B_GN16.pdf
footprint LT-GN-16_N (SOP, 16-Leads, Body 5x4mm, Pitch 0.635mm, IPC Medium Density)
footprint LT-GN-16_L (SOP, 16-Leads, Body 5x4mm, Pitch 0.635mm, IPC High Density)
footprint LT-GN-16_M (SOP, 16-Leads, Body 5x4mm, Pitch 0.635mm, IPC Low Density)
pins: 1 SGND (power) "Signal Ground Pin.", 2 RUN/SS (in) "Combination of Soft-Start and Run Control Inputs. Forcing this pin below 0.7V shuts down the device. In shutdown all functions are disabled and device draws zero supply current. For the proper operation of the part, force (See Datasheet)", 3 VFB (in) "Feedback Pin. Receives the feedback voltage from an external resistor divider across the output.", 4 ITH "Error Amplifier Compensation Point. The current output increases with this control voltage. Nominal voltage range for this pin is 0.5V to 1.8V.", 5 SWP1 (power) "Upper Switch Nodes. These pins connect to the drains of the internal main PMOS switches and should always be connected together externally.", 6 SWN1 (power) "Lower Switch Nodes. These pins connect to the drains of the internal synchronous NMOS switches and should always be connected together externally.", 7 PGND1 (power) "Power Ground Pins. Ground pins for the internal drivers and switches. These pins should always be tied together.", 8 PVIN1 (power) "Power Supply Pins for the Internal Drivers and Switches. These pins should always be tied together.", 9 PVIN2 (power) "Power Supply Pins for the Internal Drivers and Switches. These pins should always be tied together.", 10 PGND2 (power) "Power Ground Pins. Ground pins for the internal drivers and switches. These pins should always be tied together.", 11 SWN2 (power) "Lower Switch Nodes. These pins connect to the drains of the internal synchronous NMOS switches and should always be connected together externally.", 12 SWP2 (power) "Upper Switch Nodes. These pins connect to the drains of the internal main PMOS switches and should always be connected together externally.", 13 SVIN (power) "Signal Power Supply Pin.", 14 PGOOD (oc) "Power Good Indicator Pin. Power good is an open-drain logic output. The PGOOD pin is pulled to ground when the voltage on the VFB pin is not within +/-7.5% of its nominally regulated potential. This pin requires a pull-up (See Datasheet)", 15 SYNC/MODE (in) "External Clock Synchronization and Mode Select Input. To synchronize, apply an external clock with a frequency between 350kHz and 750kHz. To select Burst Mode operation, tie pin to SVIN. Grounding this pin selects pulse (See Datasheet)", 16 PLL_LPF "Output of the Phase Detector and Control Input of Oscillator. Connect a series RC lowpass network from this pin to ground if externally synchronized. If unused, this pin may be left open."

## LTC1875EGN#TR
designator U?
15 uA Quiescent Current 1.5 A Monolithic Synchronous Step-Down Regulator, 16-pin SOP (GN-16), -40 to 85 degC, Tape and Reel; Manufacturer: Linear Technology; PartNumber: LTC1875EGN#TR; Frequency Sync Range: 350kHz - 750kHz; Number of Outputs: 1; PackageVersion: Rev. B, 03/2012; PackageReference: GN-16; PackageDescription: 16-Pin Plastic SSOP, Body 4.9 x 3.9 mm, Pitch 0.635 mm; Supplier 1: Digi-Key; Supplier Part Number 1: LTC1875EGNTR-ND; Packing: Tape and Reel; RoHS: FALSE; Mounting Technology: Surface Mount; ComponentLink1Description: Manufacturer URL; ComponentLink1URL: http://www.linear.com/; ComponentLink2Description: Datasheet; ComponentLink2URL: http://cds.linear.com/docs/en/datasheet/1875f.pdf; ComponentLink3Description: Package Specification; ComponentLink3URL: http://cds.linear.com/docs/en/packaging/05081641_B_GN16.pdf
footprint LT-GN-16_N (SOP, 16-Leads, Body 5x4mm, Pitch 0.635mm, IPC Medium Density)
footprint LT-GN-16_L (SOP, 16-Leads, Body 5x4mm, Pitch 0.635mm, IPC High Density)
footprint LT-GN-16_M (SOP, 16-Leads, Body 5x4mm, Pitch 0.635mm, IPC Low Density)
pins: 1 SGND (power) "Signal Ground Pin.", 2 RUN/SS (in) "Combination of Soft-Start and Run Control Inputs. Forcing this pin below 0.7V shuts down the device. In shutdown all functions are disabled and device draws zero supply current. For the proper operation of the part, force (See Datasheet)", 3 VFB (in) "Feedback Pin. Receives the feedback voltage from an external resistor divider across the output.", 4 ITH "Error Amplifier Compensation Point. The current output increases with this control voltage. Nominal voltage range for this pin is 0.5V to 1.8V.", 5 SWP1 (power) "Upper Switch Nodes. These pins connect to the drains of the internal main PMOS switches and should always be connected together externally.", 6 SWN1 (power) "Lower Switch Nodes. These pins connect to the drains of the internal synchronous NMOS switches and should always be connected together externally.", 7 PGND1 (power) "Power Ground Pins. Ground pins for the internal drivers and switches. These pins should always be tied together.", 8 PVIN1 (power) "Power Supply Pins for the Internal Drivers and Switches. These pins should always be tied together.", 9 PVIN2 (power) "Power Supply Pins for the Internal Drivers and Switches. These pins should always be tied together.", 10 PGND2 (power) "Power Ground Pins. Ground pins for the internal drivers and switches. These pins should always be tied together.", 11 SWN2 (power) "Lower Switch Nodes. These pins connect to the drains of the internal synchronous NMOS switches and should always be connected together externally.", 12 SWP2 (power) "Upper Switch Nodes. These pins connect to the drains of the internal main PMOS switches and should always be connected together externally.", 13 SVIN (power) "Signal Power Supply Pin.", 14 PGOOD (oc) "Power Good Indicator Pin. Power good is an open-drain logic output. The PGOOD pin is pulled to ground when the voltage on the VFB pin is not within +/-7.5% of its nominally regulated potential. This pin requires a pull-up (See Datasheet)", 15 SYNC/MODE (in) "External Clock Synchronization and Mode Select Input. To synchronize, apply an external clock with a frequency between 350kHz and 750kHz. To select Burst Mode operation, tie pin to SVIN. Grounding this pin selects pulse (See Datasheet)", 16 PLL_LPF "Output of the Phase Detector and Control Input of Oscillator. Connect a series RC lowpass network from this pin to ground if externally synchronized. If unused, this pin may be left open."

## LTC1875EGN#TRPBF
designator U?
15 uA Quiescent Current 1.5 A Monolithic Synchronous Step-Down Regulator, 16-pin SOP (GN-16), -40 to 85 degC, Pb-Free, Tape and Reel; Manufacturer: Linear Technology; PartNumber: LTC1875EGN#TRPBF; Frequency Sync Range: 350kHz - 750kHz; Number of Outputs: 1; PackageVersion: Rev. B, 03/2012; PackageReference: GN-16; PackageDescription: 16-Pin Plastic SSOP, Body 4.9 x 3.9 mm, Pitch 0.635 mm; Supplier 1: Digi-Key; Supplier Part Number 1: LTC1875EGN#TRPBF-ND; Packing: Tape and Reel; RoHS: TRUE; Mounting Technology: Surface Mount; ComponentLink1Description: Manufacturer URL; ComponentLink1URL: http://www.linear.com/; ComponentLink2Description: Datasheet; ComponentLink2URL: http://cds.linear.com/docs/en/datasheet/1875f.pdf; ComponentLink3Description: Package Specification; ComponentLink3URL: http://cds.linear.com/docs/en/packaging/05081641_B_GN16.pdf
footprint LT-GN-16_N (SOP, 16-Leads, Body 5x4mm, Pitch 0.635mm, IPC Medium Density)
footprint LT-GN-16_L (SOP, 16-Leads, Body 5x4mm, Pitch 0.635mm, IPC High Density)
footprint LT-GN-16_M (SOP, 16-Leads, Body 5x4mm, Pitch 0.635mm, IPC Low Density)
pins: 1 SGND (power) "Signal Ground Pin.", 2 RUN/SS (in) "Combination of Soft-Start and Run Control Inputs. Forcing this pin below 0.7V shuts down the device. In shutdown all functions are disabled and device draws zero supply current. For the proper operation of the part, force (See Datasheet)", 3 VFB (in) "Feedback Pin. Receives the feedback voltage from an external resistor divider across the output.", 4 ITH "Error Amplifier Compensation Point. The current output increases with this control voltage. Nominal voltage range for this pin is 0.5V to 1.8V.", 5 SWP1 (power) "Upper Switch Nodes. These pins connect to the drains of the internal main PMOS switches and should always be connected together externally.", 6 SWN1 (power) "Lower Switch Nodes. These pins connect to the drains of the internal synchronous NMOS switches and should always be connected together externally.", 7 PGND1 (power) "Power Ground Pins. Ground pins for the internal drivers and switches. These pins should always be tied together.", 8 PVIN1 (power) "Power Supply Pins for the Internal Drivers and Switches. These pins should always be tied together.", 9 PVIN2 (power) "Power Supply Pins for the Internal Drivers and Switches. These pins should always be tied together.", 10 PGND2 (power) "Power Ground Pins. Ground pins for the internal drivers and switches. These pins should always be tied together.", 11 SWN2 (power) "Lower Switch Nodes. These pins connect to the drains of the internal synchronous NMOS switches and should always be connected together externally.", 12 SWP2 (power) "Upper Switch Nodes. These pins connect to the drains of the internal main PMOS switches and should always be connected together externally.", 13 SVIN (power) "Signal Power Supply Pin.", 14 PGOOD (oc) "Power Good Indicator Pin. Power good is an open-drain logic output. The PGOOD pin is pulled to ground when the voltage on the VFB pin is not within +/-7.5% of its nominally regulated potential. This pin requires a pull-up (See Datasheet)", 15 SYNC/MODE (in) "External Clock Synchronization and Mode Select Input. To synchronize, apply an external clock with a frequency between 350kHz and 750kHz. To select Burst Mode operation, tie pin to SVIN. Grounding this pin selects pulse (See Datasheet)", 16 PLL_LPF "Output of the Phase Detector and Control Input of Oscillator. Connect a series RC lowpass network from this pin to ground if externally synchronized. If unused, this pin may be left open."